# Altium footprint library JSM1A-12V-5 15A.PcbLib: 1 footprints
Each footprint in its own frame and in the unit in brackets; x right, y up, seen from the top. Pads: shape width x height; smd on the part's side, far side on the other; paste and mask are expansions set on the pad; w line width, h text height; cw(c..) or ccw(c..) is an arc to the next point about the centre after c.
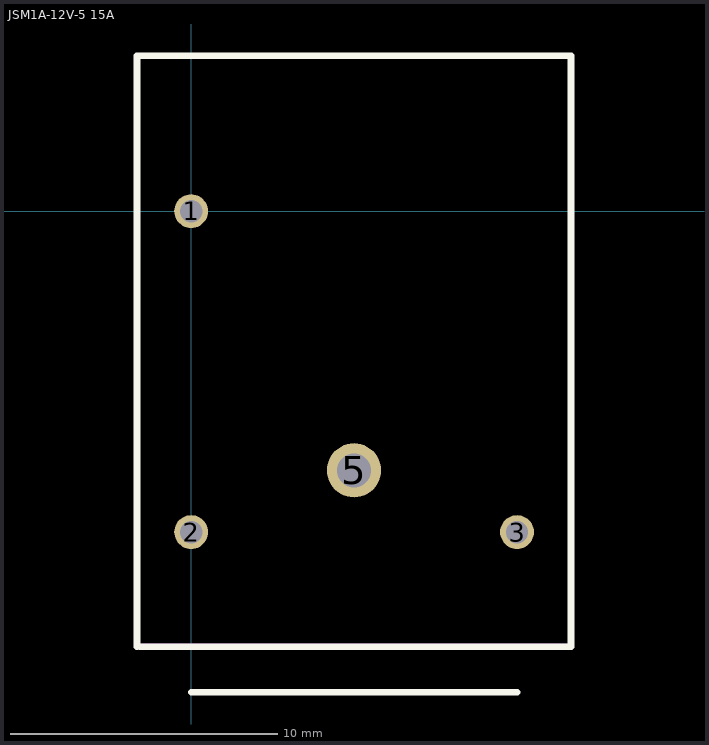
[diagram p0: the footprint, top view; thin cyan lines are the x and y axes]

## JSM1A-12V-5 15A [mil]
pads (4):
  round 50 hole 33: 1(0,0) 2(0,-473) 3(480.31,-473)
  round 80 hole 50: 5(240,-382)
Top Overlay:
  lines w10: -80,-642 -80,229 560,229 560,-642 -75,-642 ; 0,-709 480.31,-709
Mechanical 1:
  lines w10: -75,-642 240,-642 555,-642
3D body: height 10, standoff 0, extent -75,-642 555,224